# EAGLE library part CINCH_581_01_60_001 (library Cinch)
CINCH 581 01 60 001
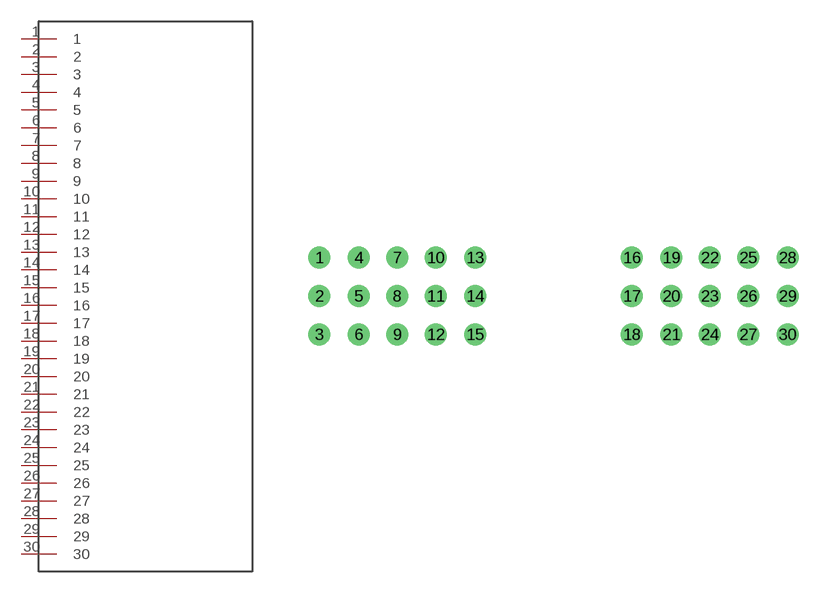
[diagram p0: symbol with the pads of CINCH_581_01_60_001; footprint CINCH_581_01_60_001]

Designator prefix -

## CINCH_581_01_60_001  [CINCH_581_01_60_001]
1  1
2  2
3  3
4  4
5  5
6  6
7  7
8  8
9  9
10  10
11  11
12  12
13  13
14  14
15  15
16  16
17  17
18  18
19  19
20  20
21  21
22  22
23  23
24  24
25  25
26  26
27  27
28  28
29  29
30  30

## Footprint CINCH_581_01_60_001 (pad centres in mm)
drill 1.5: 1 -23.85,3.9; 2 -23.85,0; 3 -23.85,-3.9; 4 -19.85,3.9; 5 -19.85,0; 6 -19.85,-3.9; 7 -15.95,3.9; 8 -15.95,0; 9 -15.95,-3.9; 10 -12.05,3.9; 11 -12.05,0; 12 -12.05,-3.9; 13 -8.05,3.9; 14 -8.05,0; 15 -8.05,-3.9; 16 7.85,3.9; 17 7.85,0; 18 7.85,-3.9; 19 11.85,3.9; 20 11.85,0; 21 11.85,-3.9; 22 15.75,3.9; 23 15.75,0; 24 15.75,-3.9; 25 19.65,3.9; 26 19.65,0; 27 19.65,-3.9; 28 23.65,3.9; 29 23.65,0; 30 23.65,-3.9